# Altium integrated library ON Semi Transient Voltage Suppressors (TVS).IntLib: 730 symbols (part 6 of 17)
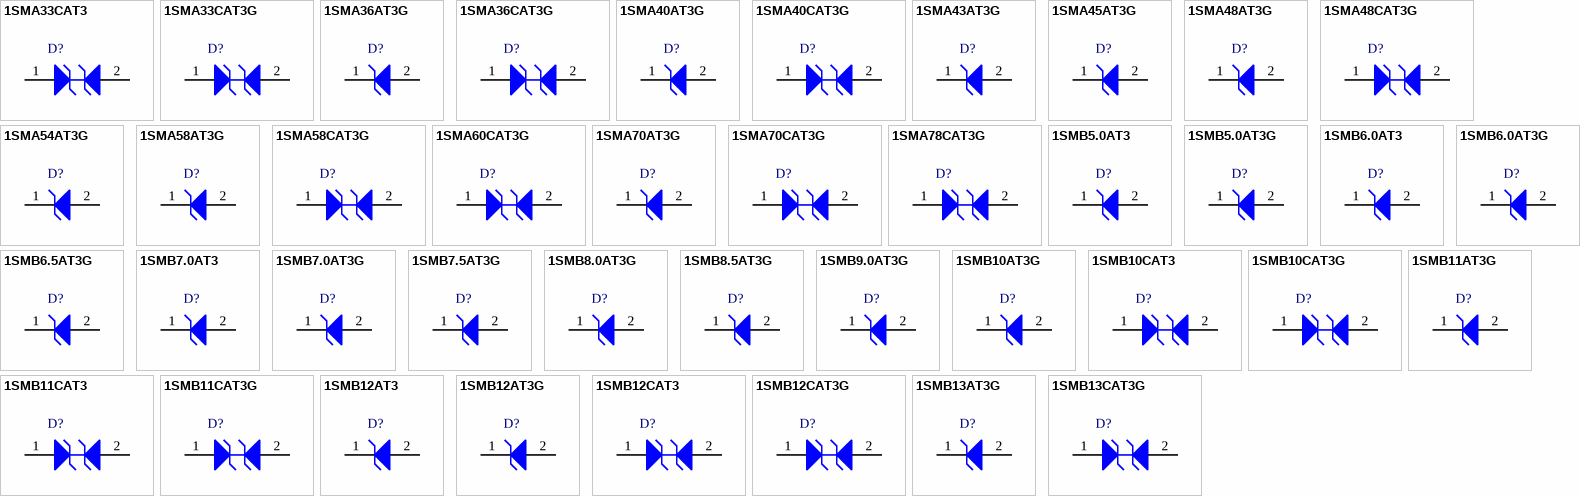
[diagram p23: symbols 1SMA33CAT3 to 1SMB13CAT3G]

## 1SMB10CAT3G
designator D?
600 W Peak Power Zener Transient Voltage Suppressor, Bidirectional, 2-Pin SMB, Pb-Free, Tape and Reel; Manufacturer: On Semiconductor; PartNumber: 1SMB10CAT3G; IR Max (uA): 5; PPK Max (W): 600; V(BR) Typ (V): 11.69; DatasheetVersion: Rev. A; PackageVersion: Rev. A, 01/2000; PackageReference: SMB-2-403C-01; PackageDescription: 2-Pin Small Molded Package, J-Bend Lead, Body 4.315 x 3.555 mm; Supplier 1: Digi-Key; Supplier Part Number 1: 1SMB10CAT3GOSTR-ND; Supplier 2: Digi-Key; Supplier Part Number 2: 1SMB10CAT3GOSCT-ND; Supplier 3: Digi-Key; Supplier Part Number 3: 1SMB10CAT3GOSDKR-ND; Supplier 4: Farnell; Supplier Part Number 4: 1703027; Supplier 5: Newark; Supplier Part Number 5: 45J2427; Supplier 6: Mouser; Supplier Part Number 6: 863-1SMB10CAT3G; Direction: Bidirectional; Packing: Tape and Reel; RoHS: Pb-Free; Mounting Technology: Surface Mount; ComponentLink1Description: Manufacturer URL; ComponentLink1URL: http://www.onsemi.com/; ComponentLink2Description: Datasheet; ComponentLink2URL: http://www.onsemi.com/pub_link/Collateral/1SMB10CAT3-D.PDF; ComponentLink3Description: Package Specification; ComponentLink3URL: http://www.onsemi.com/pub_link/Collateral/1SMB10CAT3-D.PDF
footprint ONSC-SMB-2-403C-01_V (SOJ, 2-Leads, Body 4.57x3.81mm)
pins: 1 A1, 2 A2

## 1SMB11AT3G
designator D?
600 W Peak Power Zener Transient Voltage Suppressor, Unidirectional, 2-Pin SMB, Pb-Free, Tape and Reel; Manufacturer: On Semiconductor; PartNumber: 1SMB11AT3G; IR Max (uA): 5; PPK Max (W): 600; V(BR) Typ (V): 12.85; DatasheetVersion: Rev. 13; PackageVersion: Rev. H, 05/2011; PackageReference: SMB-2-403A-03_H; PackageDescription: 2-Pin Small Molded Package, J-Bend Lead, Body 4.33 x 3.625 mm; Supplier 1: Digi-Key; Supplier Part Number 1: 1SMB11AT3G-ND; Supplier 2: Newark; Supplier Part Number 2: 42K3081; Supplier 3: Mouser; Supplier Part Number 3: 863-1SMB11AT3G; Direction: Unidirectional; Packing: Tape and Reel; RoHS: Pb-Free; Mounting Technology: Surface Mount; ComponentLink1Description: Manufacturer URL; ComponentLink1URL: http://www.onsemi.com/; ComponentLink2Description: Datasheet; ComponentLink2URL: http://www.onsemi.com/pub_link/Collateral/1SMB5.0AT3-D.PDF; ComponentLink3Description: Package Specification; ComponentLink3URL: http://www.onsemi.com/pub_link/Collateral/1SMB5913BT3-D.PDF
footprint ONSC-SMB-2-403A-03_H_V (Molded, 2-Leads, Body 4.6x3.95mm)
pins: 1 K, 2 A

## 1SMB11CAT3
designator D?
600 W Peak Power Zener Transient Voltage Suppressor, Bidirectional, 2-Pin SMB, Tape and Reel; Manufacturer: On Semiconductor; PartNumber: 1SMB11CAT3; IR Max (uA): 5; PPK Max (W): 600; V(BR) Typ (V): 12.84; DatasheetVersion: Rev. A; PackageVersion: Rev. A, 01/2000; PackageReference: SMB-2-403C-01; PackageDescription: 2-Pin Small Molded Package, J-Bend Lead, Body 4.315 x 3.555 mm; Supplier 1: Digi-Key; Supplier Part Number 1: 1SMB11CAT3-ND; Direction: Bidirectional; Packing: Tape and Reel; Mounting Technology: Surface Mount; ComponentLink1Description: Manufacturer URL; ComponentLink1URL: http://www.onsemi.com/; ComponentLink2Description: Datasheet; ComponentLink2URL: http://www.onsemi.com/pub_link/Collateral/1SMB10CAT3-D.PDF; ComponentLink3Description: Package Specification; ComponentLink3URL: http://www.onsemi.com/pub_link/Collateral/1SMB10CAT3-D.PDF
footprint ONSC-SMB-2-403C-01_V (SOJ, 2-Leads, Body 4.57x3.81mm)
pins: 1 A1, 2 A2

## 1SMB11CAT3G
designator D?
600 W Peak Power Zener Transient Voltage Suppressor, Bidirectional, 2-Pin SMB, Pb-Free, Tape and Reel; Manufacturer: On Semiconductor; PartNumber: 1SMB11CAT3G; IR Max (uA): 5; PPK Max (W): 600; V(BR) Typ (V): 12.84; DatasheetVersion: Rev. A; PackageVersion: Rev. A, 01/2000; PackageReference: SMB-2-403C-01; PackageDescription: 2-Pin Small Molded Package, J-Bend Lead, Body 4.315 x 3.555 mm; Supplier 1: Digi-Key; Supplier Part Number 1: 1SMB11CAT3GOSTR-ND; Supplier 2: Digi-Key; Supplier Part Number 2: 1SMB11CAT3GOSCT-ND; Supplier 3: Digi-Key; Supplier Part Number 3: 1SMB11CAT3GOSDKR-ND; Supplier 4: Newark; Supplier Part Number 4: 45J2428; Supplier 5: Mouser; Supplier Part Number 5: 863-1SMB11CAT3G; Direction: Bidirectional; Packing: Tape and Reel; RoHS: Pb-Free; Mounting Technology: Surface Mount; ComponentLink1Description: Manufacturer URL; ComponentLink1URL: http://www.onsemi.com/; ComponentLink2Description: Datasheet; ComponentLink2URL: http://www.onsemi.com/pub_link/Collateral/1SMB10CAT3-D.PDF; ComponentLink3Description: Package Specification; ComponentLink3URL: http://www.onsemi.com/pub_link/Collateral/1SMB10CAT3-D.PDF
footprint ONSC-SMB-2-403C-01_V (SOJ, 2-Leads, Body 4.57x3.81mm)
pins: 1 A1, 2 A2

## 1SMB12AT3
designator D?
600 W Peak Power Zener Transient Voltage Suppressor, Unidirectional, 2-Pin SMB, Tape and Reel; Manufacturer: On Semiconductor; PartNumber: 1SMB12AT3; IR Max (uA): 5; PPK Max (W): 600; V(BR) Typ (V): 14; DatasheetVersion: Rev. 13; PackageVersion: Rev. H, 05/2011; PackageReference: SMB-2-403A-03_H; PackageDescription: 2-Pin Small Molded Package, J-Bend Lead, Body 4.33 x 3.625 mm; Supplier 1: Digi-Key; Supplier Part Number 1: 1SMB12AT3OSCT-ND; Supplier 2: Digi-Key; Supplier Part Number 2: 1SMB12AT3OSDKR-ND; Direction: Unidirectional; Packing: Tape and Reel; Mounting Technology: Surface Mount; ComponentLink1Description: Manufacturer URL; ComponentLink1URL: http://www.onsemi.com/; ComponentLink2Description: Datasheet; ComponentLink2URL: http://www.onsemi.com/pub_link/Collateral/1SMB5.0AT3-D.PDF; ComponentLink3Description: Package Specification; ComponentLink3URL: http://www.onsemi.com/pub_link/Collateral/1SMB5913BT3-D.PDF
footprint ONSC-SMB-2-403A-03_H_V (Molded, 2-Leads, Body 4.6x3.95mm)
pins: 1 K, 2 A

## 1SMB12AT3G
designator D?
600 W Peak Power Zener Transient Voltage Suppressor, Unidirectional, 2-Pin SMB, Pb-Free, Tape and Reel; Manufacturer: On Semiconductor; PartNumber: 1SMB12AT3G; IR Max (uA): 5; PPK Max (W): 600; V(BR) Typ (V): 14; DatasheetVersion: Rev. 13; PackageVersion: Rev. H, 05/2011; PackageReference: SMB-2-403A-03_H; PackageDescription: 2-Pin Small Molded Package, J-Bend Lead, Body 4.33 x 3.625 mm; Supplier 1: Digi-Key; Supplier Part Number 1: 1SMB12AT3GOSTR-ND; Supplier 2: Digi-Key; Supplier Part Number 2: 1SMB12AT3GOSCT-ND; Supplier 3: Digi-Key; Supplier Part Number 3: 1SMB12AT3GOSDKR-ND; Supplier 4: Farnell; Supplier Part Number 4: 1459012RL; Supplier 5: Farnell; Supplier Part Number 5: 1459012; Supplier 6: Newark; Supplier Part Number 6: 45J2429; Supplier 7: Mouser; Supplier Part Number 7: 863-1SMB12AT3G; Direction: Unidirectional; Packing: Tape and Reel; RoHS: Pb-Free; Mounting Technology: Surface Mount; ComponentLink1Description: Manufacturer URL; ComponentLink1URL: http://www.onsemi.com/; ComponentLink2Description: Datasheet; ComponentLink2URL: http://www.onsemi.com/pub_link/Collateral/1SMB5.0AT3-D.PDF; ComponentLink3Description: Package Specification; ComponentLink3URL: http://www.onsemi.com/pub_link/Collateral/1SMB5913BT3-D.PDF
footprint ONSC-SMB-2-403A-03_H_V (Molded, 2-Leads, Body 4.6x3.95mm)
pins: 1 K, 2 A

## 1SMB12CAT3
designator D?
600 W Peak Power Zener Transient Voltage Suppressor, Bidirectional, 2-Pin SMB, Tape and Reel; Manufacturer: On Semiconductor; PartNumber: 1SMB12CAT3; IR Max (uA): 5; PPK Max (W): 600; V(BR) Typ (V): 14; DatasheetVersion: Rev. A; PackageVersion: Rev. A, 01/2000; PackageReference: SMB-2-403C-01; PackageDescription: 2-Pin Small Molded Package, J-Bend Lead, Body 4.315 x 3.555 mm; Supplier 1: Digi-Key; Supplier Part Number 1: 1SMB12CAT3OSTR-ND; Supplier 2: Digi-Key; Supplier Part Number 2: 1SMB12CAT3OSCT-ND; Supplier 3: Digi-Key; Supplier Part Number 3: 1SMB12CAT3OSDKR-ND; Direction: Bidirectional; Packing: Tape and Reel; Mounting Technology: Surface Mount; ComponentLink1Description: Manufacturer URL; ComponentLink1URL: http://www.onsemi.com/; ComponentLink2Description: Datasheet; ComponentLink2URL: http://www.onsemi.com/pub_link/Collateral/1SMB10CAT3-D.PDF; ComponentLink3Description: Package Specification; ComponentLink3URL: http://www.onsemi.com/pub_link/Collateral/1SMB10CAT3-D.PDF
footprint ONSC-SMB-2-403C-01_V (SOJ, 2-Leads, Body 4.57x3.81mm)
pins: 1 A1, 2 A2

## 1SMB12CAT3G
designator D?
600 W Peak Power Zener Transient Voltage Suppressor, Bidirectional, 2-Pin SMB, Pb-Free, Tape and Reel; Manufacturer: On Semiconductor; PartNumber: 1SMB12CAT3G; IR Max (uA): 5; PPK Max (W): 600; V(BR) Typ (V): 14; DatasheetVersion: Rev. A; PackageVersion: Rev. A, 01/2000; PackageReference: SMB-2-403C-01; PackageDescription: 2-Pin Small Molded Package, J-Bend Lead, Body 4.315 x 3.555 mm; Supplier 1: Digi-Key; Supplier Part Number 1: 1SMB12CAT3GOSTR-ND; Supplier 2: Digi-Key; Supplier Part Number 2: 1SMB12CAT3GOSCT-ND; Supplier 3: Digi-Key; Supplier Part Number 3: 1SMB12CAT3GOSDKR-ND; Supplier 4: Farnell; Supplier Part Number 4: 1150528; Supplier 5: Newark; Supplier Part Number 5: 45J2430; Supplier 6: Newark; Supplier Part Number 6: 77M8950; Supplier 7: Mouser; Supplier Part Number 7: 863-1SMB12CAT3G; Direction: Bidirectional; Packing: Tape and Reel; RoHS: Pb-Free; Mounting Technology: Surface Mount; ComponentLink1Description: Manufacturer URL; ComponentLink1URL: http://www.onsemi.com/; ComponentLink2Description: Datasheet; ComponentLink2URL: http://www.onsemi.com/pub_link/Collateral/1SMB10CAT3-D.PDF; ComponentLink3Description: Package Specification; ComponentLink3URL: http://www.onsemi.com/pub_link/Collateral/1SMB10CAT3-D.PDF
footprint ONSC-SMB-2-403C-01_V (SOJ, 2-Leads, Body 4.57x3.81mm)
pins: 1 A1, 2 A2

## 1SMB13AT3G
designator D?
600 W Peak Power Zener Transient Voltage Suppressor, Unidirectional, 2-Pin SMB, Pb-Free, Tape and Reel; Manufacturer: On Semiconductor; PartNumber: 1SMB13AT3G; IR Max (uA): 5; PPK Max (W): 600; V(BR) Typ (V): 15.15; DatasheetVersion: Rev. 13; PackageVersion: Rev. H, 05/2011; PackageReference: SMB-2-403A-03_H; PackageDescription: 2-Pin Small Molded Package, J-Bend Lead, Body 4.33 x 3.625 mm; Supplier 1: Digi-Key; Supplier Part Number 1: 1SMB13AT3GOSTR-ND; Supplier 2: Digi-Key; Supplier Part Number 2: 1SMB13AT3GOSCT-ND; Supplier 3: Digi-Key; Supplier Part Number 3: 1SMB13AT3GOSDKR-ND; Supplier 4: Newark; Supplier Part Number 4: 10N9656; Supplier 5: Mouser; Supplier Part Number 5: 863-1SMB13AT3G; Direction: Unidirectional; Packing: Tape and Reel; RoHS: Pb-Free; Mounting Technology: Surface Mount; ComponentLink1Description: Manufacturer URL; ComponentLink1URL: http://www.onsemi.com/; ComponentLink2Description: Datasheet; ComponentLink2URL: http://www.onsemi.com/pub_link/Collateral/1SMB5.0AT3-D.PDF; ComponentLink3Description: Package Specification; ComponentLink3URL: http://www.onsemi.com/pub_link/Collateral/1SMB5913BT3-D.PDF
footprint ONSC-SMB-2-403A-03_H_V (Molded, 2-Leads, Body 4.6x3.95mm)
pins: 1 K, 2 A

## 1SMB13CAT3G
designator D?
600 W Peak Power Zener Transient Voltage Suppressor, Bidirectional, 2-Pin SMB, Pb-Free, Tape and Reel; Manufacturer: On Semiconductor; PartNumber: 1SMB13CAT3G; IR Max (uA): 5; PPK Max (W): 600; V(BR) Typ (V): 15.16; DatasheetVersion: Rev. A; PackageVersion: Rev. A, 01/2000; PackageReference: SMB-2-403C-01; PackageDescription: 2-Pin Small Molded Package, J-Bend Lead, Body 4.315 x 3.555 mm; Supplier 1: Digi-Key; Supplier Part Number 1: 1SMB13CAT3GOSTR-ND; Supplier 2: Digi-Key; Supplier Part Number 2: 1SMB13CAT3GOSCT-ND; Supplier 3: Digi-Key; Supplier Part Number 3: 1SMB13CAT3GOSDKR-ND; Supplier 4: Newark; Supplier Part Number 4: 71J9204; Supplier 5: Mouser; Supplier Part Number 5: 863-1SMB13CAT3G; Direction: Bidirectional; Packing: Tape and Reel; RoHS: Pb-Free; Mounting Technology: Surface Mount; ComponentLink1Description: Manufacturer URL; ComponentLink1URL: http://www.onsemi.com/; ComponentLink2Description: Datasheet; ComponentLink2URL: http://www.onsemi.com/pub_link/Collateral/1SMB10CAT3-D.PDF; ComponentLink3Description: Package Specification; ComponentLink3URL: http://www.onsemi.com/pub_link/Collateral/1SMB10CAT3-D.PDF
footprint ONSC-SMB-2-403C-01_V (SOJ, 2-Leads, Body 4.57x3.81mm)
pins: 1 A1, 2 A2

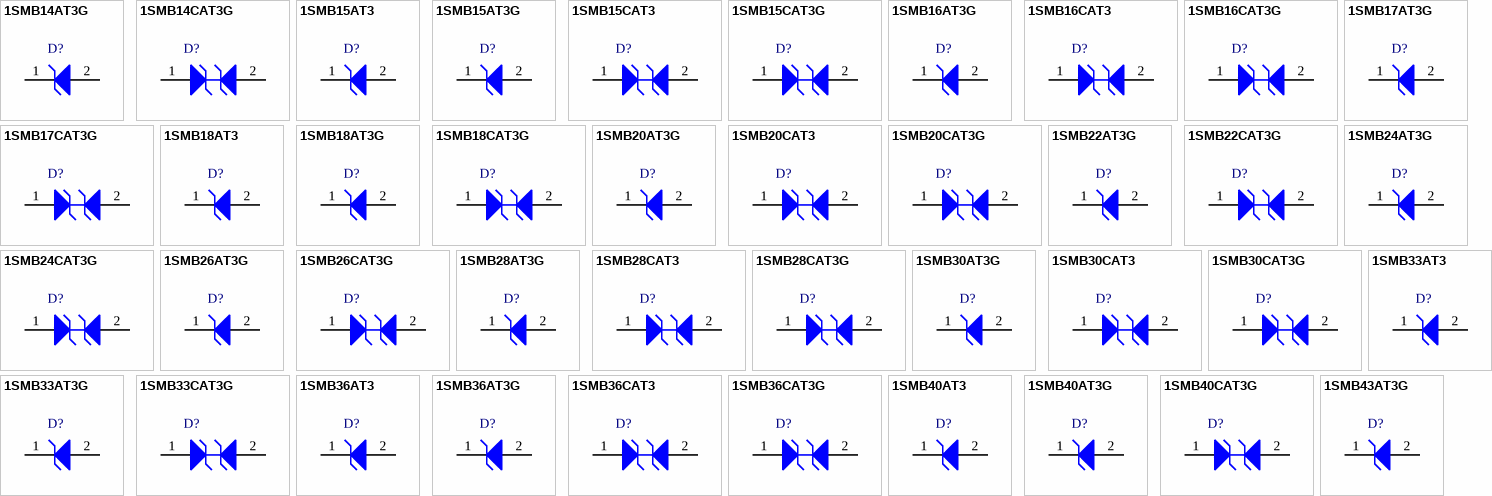
[diagram p6: symbols 1SMB14AT3G to 1SMB43AT3G]

## 1SMB14AT3G
designator D?
600 W Peak Power Zener Transient Voltage Suppressor, Unidirectional, 2-Pin SMB, Pb-Free, Tape and Reel; Manufacturer: On Semiconductor; PartNumber: 1SMB14AT3G; IR Max (uA): 5; PPK Max (W): 600; V(BR) Typ (V): 16.4; DatasheetVersion: Rev. 13; PackageVersion: Rev. H, 05/2011; PackageReference: SMB-2-403A-03_H; PackageDescription: 2-Pin Small Molded Package, J-Bend Lead, Body 4.33 x 3.625 mm; Supplier 1: Digi-Key; Supplier Part Number 1: 1SMB14AT3GOSTR-ND; Supplier 2: Digi-Key; Supplier Part Number 2: 1SMB14AT3GOSCT-ND; Supplier 3: Digi-Key; Supplier Part Number 3: 1SMB14AT3GOSDKR-ND; Supplier 4: Farnell; Supplier Part Number 4: 1890587; Supplier 5: Newark; Supplier Part Number 5: 09R9822; Supplier 6: Newark; Supplier Part Number 6: 88H5162; Supplier 7: Mouser; Supplier Part Number 7: 863-1SMB14AT3G; Direction: Unidirectional; Packing: Tape and Reel; RoHS: Pb-Free; Mounting Technology: Surface Mount; ComponentLink1Description: Manufacturer URL; ComponentLink1URL: http://www.onsemi.com/; ComponentLink2Description: Datasheet; ComponentLink2URL: http://www.onsemi.com/pub_link/Collateral/1SMB5.0AT3-D.PDF; ComponentLink3Description: Package Specification; ComponentLink3URL: http://www.onsemi.com/pub_link/Collateral/1SMB5913BT3-D.PDF
footprint ONSC-SMB-2-403A-03_H_V (Molded, 2-Leads, Body 4.6x3.95mm)
pins: 1 K, 2 A

## 1SMB14CAT3G
designator D?
600 W Peak Power Zener Transient Voltage Suppressor, Bidirectional, 2-Pin SMB, Pb-Free, Tape and Reel; Manufacturer: On Semiconductor; PartNumber: 1SMB14CAT3G; IR Max (uA): 5; PPK Max (W): 600; V(BR) Typ (V): 16.42; DatasheetVersion: Rev. A; PackageVersion: Rev. A, 01/2000; PackageReference: SMB-2-403C-01; PackageDescription: 2-Pin Small Molded Package, J-Bend Lead, Body 4.315 x 3.555 mm; Supplier 1: Digi-Key; Supplier Part Number 1: 1SMB14CAT3G-ND; Supplier 2: Newark; Supplier Part Number 2: 42K3083; Supplier 3: Mouser; Supplier Part Number 3: 863-1SMB14CAT3G; Direction: Bidirectional; Packing: Tape and Reel; RoHS: Pb-Free; Mounting Technology: Surface Mount; ComponentLink1Description: Manufacturer URL; ComponentLink1URL: http://www.onsemi.com/; ComponentLink2Description: Datasheet; ComponentLink2URL: http://www.onsemi.com/pub_link/Collateral/1SMB10CAT3-D.PDF; ComponentLink3Description: Package Specification; ComponentLink3URL: http://www.onsemi.com/pub_link/Collateral/1SMB10CAT3-D.PDF
footprint ONSC-SMB-2-403C-01_V (SOJ, 2-Leads, Body 4.57x3.81mm)
pins: 1 A1, 2 A2

## 1SMB15AT3
designator D?
600 W Peak Power Zener Transient Voltage Suppressor, Unidirectional, 2-Pin SMB, Tape and Reel; Manufacturer: On Semiconductor; PartNumber: 1SMB15AT3; IR Max (uA): 5; PPK Max (W): 600; V(BR) Typ (V): 17.6; DatasheetVersion: Rev. 13; PackageVersion: Rev. H, 05/2011; PackageReference: SMB-2-403A-03_H; PackageDescription: 2-Pin Small Molded Package, J-Bend Lead, Body 4.33 x 3.625 mm; Supplier 1: Digi-Key; Supplier Part Number 1: 1SMB15AT3OSCT-ND; Supplier 2: Digi-Key; Supplier Part Number 2: 1SMB15AT3OSDKR-ND; Direction: Unidirectional; Packing: Tape and Reel; Mounting Technology: Surface Mount; ComponentLink1Description: Manufacturer URL; ComponentLink1URL: http://www.onsemi.com/; ComponentLink2Description: Datasheet; ComponentLink2URL: http://www.onsemi.com/pub_link/Collateral/1SMB5.0AT3-D.PDF; ComponentLink3Description: Package Specification; ComponentLink3URL: http://www.onsemi.com/pub_link/Collateral/1SMB5913BT3-D.PDF
footprint ONSC-SMB-2-403A-03_H_V (Molded, 2-Leads, Body 4.6x3.95mm)
pins: 1 K, 2 A

## 1SMB15AT3G
designator D?
600 W Peak Power Zener Transient Voltage Suppressor, Unidirectional, 2-Pin SMB, Pb-Free, Tape and Reel; Manufacturer: On Semiconductor; PartNumber: 1SMB15AT3G; IR Max (uA): 5; PPK Max (W): 600; V(BR) Typ (V): 17.6; DatasheetVersion: Rev. 13; PackageVersion: Rev. H, 05/2011; PackageReference: SMB-2-403A-03_H; PackageDescription: 2-Pin Small Molded Package, J-Bend Lead, Body 4.33 x 3.625 mm; Supplier 1: Digi-Key; Supplier Part Number 1: 1SMB15AT3GOSTR-ND; Supplier 2: Digi-Key; Supplier Part Number 2: 1SMB15AT3GOSCT-ND; Supplier 3: Digi-Key; Supplier Part Number 3: 1SMB15AT3GOSDKR-ND; Supplier 4: Farnell; Supplier Part Number 4: 2317511; Supplier 5: Farnell; Supplier Part Number 5: 2370851; Supplier 6: Newark; Supplier Part Number 6: 45J2432; Supplier 7: Newark; Supplier Part Number 7: 67R1402; Supplier 8: Mouser; Supplier Part Number 8: 863-1SMB15AT3G; Direction: Unidirectional; Packing: Tape and Reel; RoHS: Pb-Free; Mounting Technology: Surface Mount; ComponentLink1Description: Manufacturer URL; ComponentLink1URL: http://www.onsemi.com/; ComponentLink2Description: Datasheet; ComponentLink2URL: http://www.onsemi.com/pub_link/Collateral/1SMB5.0AT3-D.PDF; ComponentLink3Description: Package Specification; ComponentLink3URL: http://www.onsemi.com/pub_link/Collateral/1SMB5913BT3-D.PDF
footprint ONSC-SMB-2-403A-03_H_V (Molded, 2-Leads, Body 4.6x3.95mm)
pins: 1 K, 2 A

## 1SMB15CAT3
designator D?
600 W Peak Power Zener Transient Voltage Suppressor, Bidirectional, 2-Pin SMB, Tape and Reel; Manufacturer: On Semiconductor; PartNumber: 1SMB15CAT3; IR Max (uA): 5; PPK Max (W): 600; V(BR) Typ (V): 17.58; DatasheetVersion: Rev. A; PackageVersion: Rev. A, 01/2000; PackageReference: SMB-2-403C-01; PackageDescription: 2-Pin Small Molded Package, J-Bend Lead, Body 4.315 x 3.555 mm; Supplier 1: Digi-Key; Supplier Part Number 1: 1SMB15CAT3OSTR-ND; Supplier 2: Digi-Key; Supplier Part Number 2: 1SMB15CAT3OSCT-ND; Supplier 3: Digi-Key; Supplier Part Number 3: 1SMB15CAT3OSDKR-ND; Direction: Bidirectional; Packing: Tape and Reel; Mounting Technology: Surface Mount; ComponentLink1Description: Manufacturer URL; ComponentLink1URL: http://www.onsemi.com/; ComponentLink2Description: Datasheet; ComponentLink2URL: http://www.onsemi.com/pub_link/Collateral/1SMB10CAT3-D.PDF; ComponentLink3Description: Package Specification; ComponentLink3URL: http://www.onsemi.com/pub_link/Collateral/1SMB10CAT3-D.PDF
footprint ONSC-SMB-2-403C-01_V (SOJ, 2-Leads, Body 4.57x3.81mm)
pins: 1 A1, 2 A2

## 1SMB15CAT3G
designator D?
600 W Peak Power Zener Transient Voltage Suppressor, Bidirectional, 2-Pin SMB, Pb-Free, Tape and Reel; Manufacturer: On Semiconductor; PartNumber: 1SMB15CAT3G; IR Max (uA): 5; PPK Max (W): 600; V(BR) Typ (V): 17.58; DatasheetVersion: Rev. A; PackageVersion: Rev. A, 01/2000; PackageReference: SMB-2-403C-01; PackageDescription: 2-Pin Small Molded Package, J-Bend Lead, Body 4.315 x 3.555 mm; Supplier 1: Digi-Key; Supplier Part Number 1: 1SMB15CAT3GOSTR-ND; Supplier 2: Digi-Key; Supplier Part Number 2: 1SMB15CAT3GOSCT-ND; Supplier 3: Digi-Key; Supplier Part Number 3: 1SMB15CAT3GOSDKR-ND; Supplier 4: Farnell; Supplier Part Number 4: 2317516; Supplier 5: Farnell; Supplier Part Number 5: 2370853; Supplier 6: Newark; Supplier Part Number 6: 67R1403; Supplier 7: Newark; Supplier Part Number 7: 45J2433; Supplier 8: Mouser; Supplier Part Number 8: 863-1SMB15CAT3G; Direction: Bidirectional; Packing: Tape and Reel; RoHS: Pb-Free; Mounting Technology: Surface Mount; ComponentLink1Description: Manufacturer URL; ComponentLink1URL: http://www.onsemi.com/; ComponentLink2Description: Datasheet; ComponentLink2URL: http://www.onsemi.com/pub_link/Collateral/1SMB10CAT3-D.PDF; ComponentLink3Description: Package Specification; ComponentLink3URL: http://www.onsemi.com/pub_link/Collateral/1SMB10CAT3-D.PDF
footprint ONSC-SMB-2-403C-01_V (SOJ, 2-Leads, Body 4.57x3.81mm)
pins: 1 A1, 2 A2

## 1SMB16AT3G
designator D?
600 W Peak Power Zener Transient Voltage Suppressor, Unidirectional, 2-Pin SMB, Pb-Free, Tape and Reel; Manufacturer: On Semiconductor; PartNumber: 1SMB16AT3G; IR Max (uA): 5; PPK Max (W): 600; V(BR) Typ (V): 18.75; DatasheetVersion: Rev. 13; PackageVersion: Rev. H, 05/2011; PackageReference: SMB-2-403A-03_H; PackageDescription: 2-Pin Small Molded Package, J-Bend Lead, Body 4.33 x 3.625 mm; Supplier 1: Digi-Key; Supplier Part Number 1: 1SMB16AT3GOSTR-ND; Supplier 2: Digi-Key; Supplier Part Number 2: 1SMB16AT3GOSCT-ND; Supplier 3: Digi-Key; Supplier Part Number 3: 1SMB16AT3GOSDKR-ND; Supplier 4: Farnell; Supplier Part Number 4: 1155742; Supplier 5: Newark; Supplier Part Number 5: 88H5163; Supplier 6: Mouser; Supplier Part Number 6: 863-1SMB16AT3G; Direction: Unidirectional; Packing: Tape and Reel; RoHS: Pb-Free; Mounting Technology: Surface Mount; ComponentLink1Description: Manufacturer URL; ComponentLink1URL: http://www.onsemi.com/; ComponentLink2Description: Datasheet; ComponentLink2URL: http://www.onsemi.com/pub_link/Collateral/1SMB5.0AT3-D.PDF; ComponentLink3Description: Package Specification; ComponentLink3URL: http://www.onsemi.com/pub_link/Collateral/1SMB5913BT3-D.PDF
footprint ONSC-SMB-2-403A-03_H_V (Molded, 2-Leads, Body 4.6x3.95mm)
pins: 1 K, 2 A

## 1SMB16CAT3
designator D?
600 W Peak Power Zener Transient Voltage Suppressor, Bidirectional, 2-Pin SMB, Tape and Reel; Manufacturer: On Semiconductor; PartNumber: 1SMB16CAT3; IR Max (uA): 5; PPK Max (W): 600; V(BR) Typ (V): 18.74; DatasheetVersion: Rev. A; PackageVersion: Rev. A, 01/2000; PackageReference: SMB-2-403C-01; PackageDescription: 2-Pin Small Molded Package, J-Bend Lead, Body 4.315 x 3.555 mm; Supplier 1: Digi-Key; Supplier Part Number 1: 1SMB16CAT3OSTR-ND; Supplier 2: Digi-Key; Supplier Part Number 2: 1SMB16CAT3OSCT-ND; Supplier 3: Digi-Key; Supplier Part Number 3: 1SMB16CAT3OSDKR-ND; Direction: Bidirectional; Packing: Tape and Reel; Mounting Technology: Surface Mount; ComponentLink1Description: Manufacturer URL; ComponentLink1URL: http://www.onsemi.com/; ComponentLink2Description: Datasheet; ComponentLink2URL: http://www.onsemi.com/pub_link/Collateral/1SMB10CAT3-D.PDF; ComponentLink3Description: Package Specification; ComponentLink3URL: http://www.onsemi.com/pub_link/Collateral/1SMB10CAT3-D.PDF
footprint ONSC-SMB-2-403C-01_V (SOJ, 2-Leads, Body 4.57x3.81mm)
pins: 1 A1, 2 A2

## 1SMB16CAT3G
designator D?
600 W Peak Power Zener Transient Voltage Suppressor, Bidirectional, 2-Pin SMB, Pb-Free, Tape and Reel; Manufacturer: On Semiconductor; PartNumber: 1SMB16CAT3G; IR Max (uA): 5; PPK Max (W): 600; V(BR) Typ (V): 18.74; DatasheetVersion: Rev. A; PackageVersion: Rev. A, 01/2000; PackageReference: SMB-2-403C-01; PackageDescription: 2-Pin Small Molded Package, J-Bend Lead, Body 4.315 x 3.555 mm; Supplier 1: Digi-Key; Supplier Part Number 1: 1SMB16CAT3GOSTR-ND; Supplier 2: Digi-Key; Supplier Part Number 2: 1SMB16CAT3GOSCT-ND; Supplier 3: Digi-Key; Supplier Part Number 3: 1SMB16CAT3GOSDKR-ND; Supplier 4: Newark; Supplier Part Number 4: 42K3085; Supplier 5: Mouser; Supplier Part Number 5: 863-1SMB16CAT3G; Direction: Bidirectional; Packing: Tape and Reel; RoHS: Pb-Free; Mounting Technology: Surface Mount; ComponentLink1Description: Manufacturer URL; ComponentLink1URL: http://www.onsemi.com/; ComponentLink2Description: Datasheet; ComponentLink2URL: http://www.onsemi.com/pub_link/Collateral/1SMB10CAT3-D.PDF; ComponentLink3Description: Package Specification; ComponentLink3URL: http://www.onsemi.com/pub_link/Collateral/1SMB10CAT3-D.PDF
footprint ONSC-SMB-2-403C-01_V (SOJ, 2-Leads, Body 4.57x3.81mm)
pins: 1 A1, 2 A2

## 1SMB17AT3G
designator D?
600 W Peak Power Zener Transient Voltage Suppressor, Unidirectional, 2-Pin SMB, Pb-Free, Tape and Reel; Manufacturer: On Semiconductor; PartNumber: 1SMB17AT3G; IR Max (uA): 5; PPK Max (W): 600; V(BR) Typ (V): 19.9; DatasheetVersion: Rev. 13; PackageVersion: Rev. H, 05/2011; PackageReference: SMB-2-403A-03_H; PackageDescription: 2-Pin Small Molded Package, J-Bend Lead, Body 4.33 x 3.625 mm; Supplier 1: Digi-Key; Supplier Part Number 1: 1SMB17AT3GOSTR-ND; Supplier 2: Digi-Key; Supplier Part Number 2: 1SMB17AT3GOSCT-ND; Supplier 3: Digi-Key; Supplier Part Number 3: 1SMB17AT3GOSDKR-ND; Supplier 4: Farnell; Supplier Part Number 4: 1889946; Supplier 5: Newark; Supplier Part Number 5: 71J9206; Supplier 6: Newark; Supplier Part Number 6: 09R9825; Supplier 7: Mouser; Supplier Part Number 7: 863-1SMB17AT3G; Direction: Unidirectional; Packing: Tape and Reel; RoHS: Pb-Free; Mounting Technology: Surface Mount; ComponentLink1Description: Manufacturer URL; ComponentLink1URL: http://www.onsemi.com/; ComponentLink2Description: Datasheet; ComponentLink2URL: http://www.onsemi.com/pub_link/Collateral/1SMB5.0AT3-D.PDF; ComponentLink3Description: Package Specification; ComponentLink3URL: http://www.onsemi.com/pub_link/Collateral/1SMB5913BT3-D.PDF
footprint ONSC-SMB-2-403A-03_H_V (Molded, 2-Leads, Body 4.6x3.95mm)
pins: 1 K, 2 A

## 1SMB17CAT3G
designator D?
600 W Peak Power Zener Transient Voltage Suppressor, Bidirectional, 2-Pin SMB, Pb-Free, Tape and Reel; Manufacturer: On Semiconductor; PartNumber: 1SMB17CAT3G; IR Max (uA): 5; PPK Max (W): 600; V(BR) Typ (V): 19.9; DatasheetVersion: Rev. A; PackageVersion: Rev. A, 01/2000; PackageReference: SMB-2-403C-01; PackageDescription: 2-Pin Small Molded Package, J-Bend Lead, Body 4.315 x 3.555 mm; Supplier 1: Digi-Key; Supplier Part Number 1: 1SMB17CAT3G-ND; Supplier 2: Mouser; Supplier Part Number 2: 863-1SMB17CAT3G; Direction: Bidirectional; Packing: Tape and Reel; RoHS: Pb-Free; Mounting Technology: Surface Mount; ComponentLink1Description: Manufacturer URL; ComponentLink1URL: http://www.onsemi.com/; ComponentLink2Description: Datasheet; ComponentLink2URL: http://www.onsemi.com/pub_link/Collateral/1SMB10CAT3-D.PDF; ComponentLink3Description: Package Specification; ComponentLink3URL: http://www.onsemi.com/pub_link/Collateral/1SMB10CAT3-D.PDF
footprint ONSC-SMB-2-403C-01_V (SOJ, 2-Leads, Body 4.57x3.81mm)
pins: 1 A1, 2 A2

## 1SMB18AT3
designator D?
600 W Peak Power Zener Transient Voltage Suppressor, Unidirectional, 2-Pin SMB, Tape and Reel; Manufacturer: On Semiconductor; PartNumber: 1SMB18AT3; IR Max (uA): 5; PPK Max (W): 600; V(BR) Typ (V): 21.05; DatasheetVersion: Rev. 13; PackageVersion: Rev. H, 05/2011; PackageReference: SMB-2-403A-03_H; PackageDescription: 2-Pin Small Molded Package, J-Bend Lead, Body 4.33 x 3.625 mm; Supplier 1: Digi-Key; Supplier Part Number 1: 1SMB18AT3OSCT-ND; Supplier 2: Digi-Key; Supplier Part Number 2: 1SMB18AT3OSDKR-ND; Direction: Unidirectional; Packing: Tape and Reel; Mounting Technology: Surface Mount; ComponentLink1Description: Manufacturer URL; ComponentLink1URL: http://www.onsemi.com/; ComponentLink2Description: Datasheet; ComponentLink2URL: http://www.onsemi.com/pub_link/Collateral/1SMB5.0AT3-D.PDF; ComponentLink3Description: Package Specification; ComponentLink3URL: http://www.onsemi.com/pub_link/Collateral/1SMB5913BT3-D.PDF
footprint ONSC-SMB-2-403A-03_H_V (Molded, 2-Leads, Body 4.6x3.95mm)
pins: 1 K, 2 A

## 1SMB18AT3G
designator D?
600 W Peak Power Zener Transient Voltage Suppressor, Unidirectional, 2-Pin SMB, Pb-Free, Tape and Reel; Manufacturer: On Semiconductor; PartNumber: 1SMB18AT3G; IR Max (uA): 5; PPK Max (W): 600; V(BR) Typ (V): 21.05; DatasheetVersion: Rev. 13; PackageVersion: Rev. H, 05/2011; PackageReference: SMB-2-403A-03_H; PackageDescription: 2-Pin Small Molded Package, J-Bend Lead, Body 4.33 x 3.625 mm; Supplier 1: Digi-Key; Supplier Part Number 1: 1SMB18AT3GOSTR-ND; Supplier 2: Digi-Key; Supplier Part Number 2: 1SMB18AT3GOSCT-ND; Supplier 3: Digi-Key; Supplier Part Number 3: 1SMB18AT3GOSDKR-ND; Supplier 4: Farnell; Supplier Part Number 4: 1364653; Supplier 5: Newark; Supplier Part Number 5: 45J2434; Supplier 6: Mouser; Supplier Part Number 6: 863-1SMB18AT3G; Direction: Unidirectional; Packing: Tape and Reel; RoHS: Pb-Free; Mounting Technology: Surface Mount; ComponentLink1Description: Manufacturer URL; ComponentLink1URL: http://www.onsemi.com/; ComponentLink2Description: Datasheet; ComponentLink2URL: http://www.onsemi.com/pub_link/Collateral/1SMB5.0AT3-D.PDF; ComponentLink3Description: Package Specification; ComponentLink3URL: http://www.onsemi.com/pub_link/Collateral/1SMB5913BT3-D.PDF
footprint ONSC-SMB-2-403A-03_H_V (Molded, 2-Leads, Body 4.6x3.95mm)
pins: 1 K, 2 A

## 1SMB18CAT3G
designator D?
600 W Peak Power Zener Transient Voltage Suppressor, Bidirectional, 2-Pin SMB, Pb-Free, Tape and Reel; Manufacturer: On Semiconductor; PartNumber: 1SMB18CAT3G; IR Max (uA): 5; PPK Max (W): 600; V(BR) Typ (V): 21.06; DatasheetVersion: Rev. A; PackageVersion: Rev. A, 01/2000; PackageReference: SMB-2-403C-01; PackageDescription: 2-Pin Small Molded Package, J-Bend Lead, Body 4.315 x 3.555 mm; Supplier 1: Digi-Key; Supplier Part Number 1: 1SMB18CAT3GOSTR-ND; Supplier 2: Digi-Key; Supplier Part Number 2: 1SMB18CAT3GOSCT-ND; Supplier 3: Digi-Key; Supplier Part Number 3: 1SMB18CAT3GOSDKR-ND; Supplier 4: Newark; Supplier Part Number 4: 42K3086; Supplier 5: Mouser; Supplier Part Number 5: 863-1SMB18CAT3G; Direction: Bidirectional; Packing: Tape and Reel; RoHS: Pb-Free; Mounting Technology: Surface Mount; ComponentLink1Description: Manufacturer URL; ComponentLink1URL: http://www.onsemi.com/; ComponentLink2Description: Datasheet; ComponentLink2URL: http://www.onsemi.com/pub_link/Collateral/1SMB10CAT3-D.PDF; ComponentLink3Description: Package Specification; ComponentLink3URL: http://www.onsemi.com/pub_link/Collateral/1SMB10CAT3-D.PDF
footprint ONSC-SMB-2-403C-01_V (SOJ, 2-Leads, Body 4.57x3.81mm)
pins: 1 A1, 2 A2

## 1SMB20AT3G
designator D?
600 W Peak Power Zener Transient Voltage Suppressor, Unidirectional, 2-Pin SMB, Pb-Free, Tape and Reel; Manufacturer: On Semiconductor; PartNumber: 1SMB20AT3G; IR Max (uA): 5; PPK Max (W): 600; V(BR) Typ (V): 23.35; DatasheetVersion: Rev. 13; PackageVersion: Rev. H, 05/2011; PackageReference: SMB-2-403A-03_H; PackageDescription: 2-Pin Small Molded Package, J-Bend Lead, Body 4.33 x 3.625 mm; Supplier 1: Digi-Key; Supplier Part Number 1: 1SMB20AT3GOSTR-ND; Supplier 2: Digi-Key; Supplier Part Number 2: 1SMB20AT3GOSCT-ND; Supplier 3: Digi-Key; Supplier Part Number 3: 1SMB20AT3GOSDKR-ND; Supplier 4: Newark; Supplier Part Number 4: 10N9657; Supplier 5: Newark; Supplier Part Number 5: 88H5164; Supplier 6: Mouser; Supplier Part Number 6: 863-1SMB20AT3G; Direction: Unidirectional; Packing: Tape and Reel; RoHS: Pb-Free; Mounting Technology: Surface Mount; ComponentLink1Description: Manufacturer URL; ComponentLink1URL: http://www.onsemi.com/; ComponentLink2Description: Datasheet; ComponentLink2URL: http://www.onsemi.com/pub_link/Collateral/1SMB5.0AT3-D.PDF; ComponentLink3Description: Package Specification; ComponentLink3URL: http://www.onsemi.com/pub_link/Collateral/1SMB5913BT3-D.PDF
footprint ONSC-SMB-2-403A-03_H_V (Molded, 2-Leads, Body 4.6x3.95mm)
pins: 1 K, 2 A

## 1SMB20CAT3
designator D?
600 W Peak Power Zener Transient Voltage Suppressor, Bidirectional, 2-Pin SMB, Tape and Reel; Manufacturer: On Semiconductor; PartNumber: 1SMB20CAT3; IR Max (uA): 5; PPK Max (W): 600; V(BR) Typ (V): 23.37; DatasheetVersion: Rev. A; PackageVersion: Rev. A, 01/2000; PackageReference: SMB-2-403C-01; PackageDescription: 2-Pin Small Molded Package, J-Bend Lead, Body 4.315 x 3.555 mm; Supplier 1: Digi-Key; Supplier Part Number 1: 1SMB20CAT3OSTR-ND; Supplier 2: Digi-Key; Supplier Part Number 2: 1SMB20CAT3OSCT-ND; Supplier 3: Digi-Key; Supplier Part Number 3: 1SMB20CAT3OSDKR-ND; Direction: Bidirectional; Packing: Tape and Reel; Mounting Technology: Surface Mount; ComponentLink1Description: Manufacturer URL; ComponentLink1URL: http://www.onsemi.com/; ComponentLink2Description: Datasheet; ComponentLink2URL: http://www.onsemi.com/pub_link/Collateral/1SMB10CAT3-D.PDF; ComponentLink3Description: Package Specification; ComponentLink3URL: http://www.onsemi.com/pub_link/Collateral/1SMB10CAT3-D.PDF
footprint ONSC-SMB-2-403C-01_V (SOJ, 2-Leads, Body 4.57x3.81mm)
pins: 1 A1, 2 A2

## 1SMB20CAT3G
designator D?
600 W Peak Power Zener Transient Voltage Suppressor, Bidirectional, 2-Pin SMB, Pb-Free, Tape and Reel; Manufacturer: On Semiconductor; PartNumber: 1SMB20CAT3G; IR Max (uA): 5; PPK Max (W): 600; V(BR) Typ (V): 23.37; DatasheetVersion: Rev. A; PackageVersion: Rev. A, 01/2000; PackageReference: SMB-2-403C-01; PackageDescription: 2-Pin Small Molded Package, J-Bend Lead, Body 4.315 x 3.555 mm; Supplier 1: Digi-Key; Supplier Part Number 1: 1SMB20CAT3GOSTR-ND; Supplier 2: Digi-Key; Supplier Part Number 2: 1SMB20CAT3GOSCT-ND; Supplier 3: Digi-Key; Supplier Part Number 3: 1SMB20CAT3GOSDKR-ND; Supplier 4: Newark; Supplier Part Number 4: 10N9658; Supplier 5: Mouser; Supplier Part Number 5: 863-1SMB20CAT3G; Direction: Bidirectional; Packing: Tape and Reel; RoHS: Pb-Free; Mounting Technology: Surface Mount; ComponentLink1Description: Manufacturer URL; ComponentLink1URL: http://www.onsemi.com/; ComponentLink2Description: Datasheet; ComponentLink2URL: http://www.onsemi.com/pub_link/Collateral/1SMB10CAT3-D.PDF; ComponentLink3Description: Package Specification; ComponentLink3URL: http://www.onsemi.com/pub_link/Collateral/1SMB10CAT3-D.PDF
footprint ONSC-SMB-2-403C-01_V (SOJ, 2-Leads, Body 4.57x3.81mm)
pins: 1 A1, 2 A2

## 1SMB22AT3G
designator D?
600 W Peak Power Zener Transient Voltage Suppressor, Unidirectional, 2-Pin SMB, Pb-Free, Tape and Reel; Manufacturer: On Semiconductor; PartNumber: 1SMB22AT3G; IR Max (uA): 5; PPK Max (W): 600; V(BR) Typ (V): 25.65; DatasheetVersion: Rev. 13; PackageVersion: Rev. H, 05/2011; PackageReference: SMB-2-403A-03_H; PackageDescription: 2-Pin Small Molded Package, J-Bend Lead, Body 4.33 x 3.625 mm; Supplier 1: Digi-Key; Supplier Part Number 1: 1SMB22AT3GOSTR-ND; Supplier 2: Digi-Key; Supplier Part Number 2: 1SMB22AT3GOSCT-ND; Supplier 3: Digi-Key; Supplier Part Number 3: 1SMB22AT3GOSDKR-ND; Supplier 4: Newark; Supplier Part Number 4: 42K3087; Supplier 5: Mouser; Supplier Part Number 5: 863-1SMB22AT3G; Direction: Unidirectional; Packing: Tape and Reel; RoHS: Pb-Free; Mounting Technology: Surface Mount; ComponentLink1Description: Manufacturer URL; ComponentLink1URL: http://www.onsemi.com/; ComponentLink2Description: Datasheet; ComponentLink2URL: http://www.onsemi.com/pub_link/Collateral/1SMB5.0AT3-D.PDF; ComponentLink3Description: Package Specification; ComponentLink3URL: http://www.onsemi.com/pub_link/Collateral/1SMB5913BT3-D.PDF
footprint ONSC-SMB-2-403A-03_H_V (Molded, 2-Leads, Body 4.6x3.95mm)
pins: 1 K, 2 A

## 1SMB22CAT3G
designator D?
600 W Peak Power Zener Transient Voltage Suppressor, Bidirectional, 2-Pin SMB, Pb-Free, Tape and Reel; Manufacturer: On Semiconductor; PartNumber: 1SMB22CAT3G; IR Max (uA): 5; PPK Max (W): 600; V(BR) Typ (V): 25.69; DatasheetVersion: Rev. A; PackageVersion: Rev. A, 01/2000; PackageReference: SMB-2-403C-01; PackageDescription: 2-Pin Small Molded Package, J-Bend Lead, Body 4.315 x 3.555 mm; Supplier 1: Digi-Key; Supplier Part Number 1: 1SMB22CAT3GOSTR-ND; Supplier 2: Digi-Key; Supplier Part Number 2: 1SMB22CAT3GOSCT-ND; Supplier 3: Digi-Key; Supplier Part Number 3: 1SMB22CAT3GOSDKR-ND; Supplier 4: Newark; Supplier Part Number 4: 71J9208; Supplier 5: Mouser; Supplier Part Number 5: 863-1SMB22CAT3G; Direction: Bidirectional; Packing: Tape and Reel; RoHS: Pb-Free; Mounting Technology: Surface Mount; ComponentLink1Description: Manufacturer URL; ComponentLink1URL: http://www.onsemi.com/; ComponentLink2Description: Datasheet; ComponentLink2URL: http://www.onsemi.com/pub_link/Collateral/1SMB10CAT3-D.PDF; ComponentLink3Description: Package Specification; ComponentLink3URL: http://www.onsemi.com/pub_link/Collateral/1SMB10CAT3-D.PDF
footprint ONSC-SMB-2-403C-01_V (SOJ, 2-Leads, Body 4.57x3.81mm)
pins: 1 A1, 2 A2

## 1SMB24AT3G
designator D?
600 W Peak Power Zener Transient Voltage Suppressor, Unidirectional, 2-Pin SMB, Pb-Free, Tape and Reel; Manufacturer: On Semiconductor; PartNumber: 1SMB24AT3G; IR Max (uA): 5; PPK Max (W): 600; V(BR) Typ (V): 28.1; DatasheetVersion: Rev. 13; PackageVersion: Rev. H, 05/2011; PackageReference: SMB-2-403A-03_H; PackageDescription: 2-Pin Small Molded Package, J-Bend Lead, Body 4.33 x 3.625 mm; Supplier 1: Digi-Key; Supplier Part Number 1: 1SMB24AT3GOSTR-ND; Supplier 2: Digi-Key; Supplier Part Number 2: 1SMB24AT3GOSCT-ND; Supplier 3: Digi-Key; Supplier Part Number 3: 1SMB24AT3GOSDKR-ND; Supplier 4: Farnell; Supplier Part Number 4: 1651636RL; Supplier 5: Farnell; Supplier Part Number 5: 1651636; Supplier 6: Newark; Supplier Part Number 6: 45J2436; Supplier 7: Mouser; Supplier Part Number 7: 863-1SMB24AT3G; Direction: Unidirectional; Packing: Tape and Reel; RoHS: Pb-Free; Mounting Technology: Surface Mount; ComponentLink1Description: Manufacturer URL; ComponentLink1URL: http://www.onsemi.com/; ComponentLink2Description: Datasheet; ComponentLink2URL: http://www.onsemi.com/pub_link/Collateral/1SMB5.0AT3-D.PDF; ComponentLink3Description: Package Specification; ComponentLink3URL: http://www.onsemi.com/pub_link/Collateral/1SMB5913BT3-D.PDF
footprint ONSC-SMB-2-403A-03_H_V (Molded, 2-Leads, Body 4.6x3.95mm)
pins: 1 K, 2 A

## 1SMB24CAT3G
designator D?
600 W Peak Power Zener Transient Voltage Suppressor, Bidirectional, 2-Pin SMB, Pb-Free, Tape and Reel; Manufacturer: On Semiconductor; PartNumber: 1SMB24CAT3G; IR Max (uA): 5; PPK Max (W): 600; V(BR) Typ (V): 28.11; DatasheetVersion: Rev. A; PackageVersion: Rev. A, 01/2000; PackageReference: SMB-2-403C-01; PackageDescription: 2-Pin Small Molded Package, J-Bend Lead, Body 4.315 x 3.555 mm; Supplier 1: Digi-Key; Supplier Part Number 1: 1SMB24CAT3GOSTR-ND; Supplier 2: Digi-Key; Supplier Part Number 2: 1SMB24CAT3GOSCT-ND; Supplier 3: Digi-Key; Supplier Part Number 3: 1SMB24CAT3GOSDKR-ND; Supplier 4: Farnell; Supplier Part Number 4: 1705768; Supplier 5: Newark; Supplier Part Number 5: 10N9737; Supplier 6: Mouser; Supplier Part Number 6: 863-1SMB24CAT3G; Direction: Bidirectional; Packing: Tape and Reel; RoHS: Pb-Free; Mounting Technology: Surface Mount; ComponentLink1Description: Manufacturer URL; ComponentLink1URL: http://www.onsemi.com/; ComponentLink2Description: Datasheet; ComponentLink2URL: http://www.onsemi.com/pub_link/Collateral/1SMB10CAT3-D.PDF; ComponentLink3Description: Package Specification; ComponentLink3URL: http://www.onsemi.com/pub_link/Collateral/1SMB10CAT3-D.PDF
footprint ONSC-SMB-2-403C-01_V (SOJ, 2-Leads, Body 4.57x3.81mm)
pins: 1 A1, 2 A2

## 1SMB26AT3G
designator D?
600 W Peak Power Zener Transient Voltage Suppressor, Unidirectional, 2-Pin SMB, Pb-Free, Tape and Reel; Manufacturer: On Semiconductor; PartNumber: 1SMB26AT3G; IR Max (uA): 5; PPK Max (W): 600; V(BR) Typ (V): 30.4; DatasheetVersion: Rev. 13; PackageVersion: Rev. H, 05/2011; PackageReference: SMB-2-403A-03_H; PackageDescription: 2-Pin Small Molded Package, J-Bend Lead, Body 4.33 x 3.625 mm; Supplier 1: Digi-Key; Supplier Part Number 1: 1SMB26AT3GOSTR-ND; Supplier 2: Digi-Key; Supplier Part Number 2: 1SMB26AT3GOSCT-ND; Supplier 3: Digi-Key; Supplier Part Number 3: 1SMB26AT3GOSDKR-ND; Supplier 4: Newark; Supplier Part Number 4: 26K5264; Supplier 5: Mouser; Supplier Part Number 5: 863-1SMB26AT3G; Direction: Unidirectional; Packing: Tape and Reel; RoHS: Pb-Free; Mounting Technology: Surface Mount; ComponentLink1Description: Manufacturer URL; ComponentLink1URL: http://www.onsemi.com/; ComponentLink2Description: Datasheet; ComponentLink2URL: http://www.onsemi.com/pub_link/Collateral/1SMB5.0AT3-D.PDF; ComponentLink3Description: Package Specification; ComponentLink3URL: http://www.onsemi.com/pub_link/Collateral/1SMB5913BT3-D.PDF
footprint ONSC-SMB-2-403A-03_H_V (Molded, 2-Leads, Body 4.6x3.95mm)
pins: 1 K, 2 A

## 1SMB26CAT3G
designator D?
600 W Peak Power Zener Transient Voltage Suppressor, Bidirectional, 2-Pin SMB, Pb-Free, Tape and Reel; Manufacturer: On Semiconductor; PartNumber: 1SMB26CAT3G; IR Max (uA): 5; PPK Max (W): 600; V(BR) Typ (V): 30.42; DatasheetVersion: Rev. A; PackageVersion: Rev. A, 01/2000; PackageReference: SMB-2-403C-01; PackageDescription: 2-Pin Small Molded Package, J-Bend Lead, Body 4.315 x 3.555 mm; Supplier 1: Digi-Key; Supplier Part Number 1: 1SMB26CAT3GOSTR-ND; Supplier 2: Digi-Key; Supplier Part Number 2: 1SMB26CAT3GOSCT-ND; Supplier 3: Digi-Key; Supplier Part Number 3: 1SMB26CAT3GOSDKR-ND; Supplier 4: Newark; Supplier Part Number 4: 26K5265; Supplier 5: Mouser; Supplier Part Number 5: 863-1SMB26CAT3G; Direction: Bidirectional; Packing: Tape and Reel; RoHS: Pb-Free; Mounting Technology: Surface Mount; ComponentLink1Description: Manufacturer URL; ComponentLink1URL: http://www.onsemi.com/; ComponentLink2Description: Datasheet; ComponentLink2URL: http://www.onsemi.com/pub_link/Collateral/1SMB10CAT3-D.PDF; ComponentLink3Description: Package Specification; ComponentLink3URL: http://www.onsemi.com/pub_link/Collateral/1SMB10CAT3-D.PDF
footprint ONSC-SMB-2-403C-01_V (SOJ, 2-Leads, Body 4.57x3.81mm)
pins: 1 A1, 2 A2

## 1SMB28AT3G
designator D?
600 W Peak Power Zener Transient Voltage Suppressor, Unidirectional, 2-Pin SMB, Pb-Free, Tape and Reel; Manufacturer: On Semiconductor; PartNumber: 1SMB28AT3G; IR Max (uA): 5; PPK Max (W): 600; V(BR) Typ (V): 32.75; DatasheetVersion: Rev. 13; PackageVersion: Rev. H, 05/2011; PackageReference: SMB-2-403A-03_H; PackageDescription: 2-Pin Small Molded Package, J-Bend Lead, Body 4.33 x 3.625 mm; Supplier 1: Digi-Key; Supplier Part Number 1: 1SMB28AT3GOSTR-ND; Supplier 2: Digi-Key; Supplier Part Number 2: 1SMB28AT3GOSCT-ND; Supplier 3: Digi-Key; Supplier Part Number 3: 1SMB28AT3GOSDKR-ND; Supplier 4: Farnell; Supplier Part Number 4: 1651576; Supplier 5: Farnell; Supplier Part Number 5: 1651576RL; Supplier 6: Newark; Supplier Part Number 6: 45J2437; Supplier 7: Mouser; Supplier Part Number 7: 863-1SMB28AT3G; Direction: Unidirectional; Packing: Tape and Reel; RoHS: Pb-Free; Mounting Technology: Surface Mount; ComponentLink1Description: Manufacturer URL; ComponentLink1URL: http://www.onsemi.com/; ComponentLink2Description: Datasheet; ComponentLink2URL: http://www.onsemi.com/pub_link/Collateral/1SMB5.0AT3-D.PDF; ComponentLink3Description: Package Specification; ComponentLink3URL: http://www.onsemi.com/pub_link/Collateral/1SMB5913BT3-D.PDF
footprint ONSC-SMB-2-403A-03_H_V (Molded, 2-Leads, Body 4.6x3.95mm)
pins: 1 K, 2 A

## 1SMB28CAT3
designator D?
600 W Peak Power Zener Transient Voltage Suppressor, Bidirectional, 2-Pin SMB, Tape and Reel; Manufacturer: On Semiconductor; PartNumber: 1SMB28CAT3; IR Max (uA): 5; PPK Max (W): 600; V(BR) Typ (V): 32.74; DatasheetVersion: Rev. A; PackageVersion: Rev. A, 01/2000; PackageReference: SMB-2-403C-01; PackageDescription: 2-Pin Small Molded Package, J-Bend Lead, Body 4.315 x 3.555 mm; Supplier 1: Digi-Key; Supplier Part Number 1: 1SMB28CAT3-ND; Direction: Bidirectional; Packing: Tape and Reel; Mounting Technology: Surface Mount; ComponentLink1Description: Manufacturer URL; ComponentLink1URL: http://www.onsemi.com/; ComponentLink2Description: Datasheet; ComponentLink2URL: http://www.onsemi.com/pub_link/Collateral/1SMB10CAT3-D.PDF; ComponentLink3Description: Package Specification; ComponentLink3URL: http://www.onsemi.com/pub_link/Collateral/1SMB10CAT3-D.PDF
footprint ONSC-SMB-2-403C-01_V (SOJ, 2-Leads, Body 4.57x3.81mm)
pins: 1 A1, 2 A2

## 1SMB28CAT3G
designator D?
600 W Peak Power Zener Transient Voltage Suppressor, Bidirectional, 2-Pin SMB, Pb-Free, Tape and Reel; Manufacturer: On Semiconductor; PartNumber: 1SMB28CAT3G; IR Max (uA): 5; PPK Max (W): 600; V(BR) Typ (V): 32.74; DatasheetVersion: Rev. A; PackageVersion: Rev. A, 01/2000; PackageReference: SMB-2-403C-01; PackageDescription: 2-Pin Small Molded Package, J-Bend Lead, Body 4.315 x 3.555 mm; Supplier 1: Digi-Key; Supplier Part Number 1: 1SMB28CAT3GOSTR-ND; Supplier 2: Digi-Key; Supplier Part Number 2: 1SMB28CAT3GOSCT-ND; Supplier 3: Digi-Key; Supplier Part Number 3: 1SMB28CAT3GOSDKR-ND; Supplier 4: Newark; Supplier Part Number 4: 42K3088; Supplier 5: Newark; Supplier Part Number 5: 10N9659; Supplier 6: Mouser; Supplier Part Number 6: 863-1SMB28CAT3G; Direction: Bidirectional; Packing: Tape and Reel; RoHS: Pb-Free; Mounting Technology: Surface Mount; ComponentLink1Description: Manufacturer URL; ComponentLink1URL: http://www.onsemi.com/; ComponentLink2Description: Datasheet; ComponentLink2URL: http://www.onsemi.com/pub_link/Collateral/1SMB10CAT3-D.PDF; ComponentLink3Description: Package Specification; ComponentLink3URL: http://www.onsemi.com/pub_link/Collateral/1SMB10CAT3-D.PDF
footprint ONSC-SMB-2-403C-01_V (SOJ, 2-Leads, Body 4.57x3.81mm)
pins: 1 A1, 2 A2

## 1SMB30AT3G
designator D?
600 W Peak Power Zener Transient Voltage Suppressor, Unidirectional, 2-Pin SMB, Pb-Free, Tape and Reel; Manufacturer: On Semiconductor; PartNumber: 1SMB30AT3G; IR Max (uA): 5; PPK Max (W): 600; V(BR) Typ (V): 35.05; DatasheetVersion: Rev. 13; PackageVersion: Rev. H, 05/2011; PackageReference: SMB-2-403A-03_H; PackageDescription: 2-Pin Small Molded Package, J-Bend Lead, Body 4.33 x 3.625 mm; Supplier 1: Digi-Key; Supplier Part Number 1: 1SMB30AT3GOSTR-ND; Supplier 2: Digi-Key; Supplier Part Number 2: 1SMB30AT3GOSCT-ND; Supplier 3: Digi-Key; Supplier Part Number 3: 1SMB30AT3GOSDKR-ND; Supplier 4: Newark; Supplier Part Number 4: 45J2438; Supplier 5: Mouser; Supplier Part Number 5: 863-1SMB30AT3G; Direction: Unidirectional; Packing: Tape and Reel; RoHS: Pb-Free; Mounting Technology: Surface Mount; ComponentLink1Description: Manufacturer URL; ComponentLink1URL: http://www.onsemi.com/; ComponentLink2Description: Datasheet; ComponentLink2URL: http://www.onsemi.com/pub_link/Collateral/1SMB5.0AT3-D.PDF; ComponentLink3Description: Package Specification; ComponentLink3URL: http://www.onsemi.com/pub_link/Collateral/1SMB5913BT3-D.PDF
footprint ONSC-SMB-2-403A-03_H_V (Molded, 2-Leads, Body 4.6x3.95mm)
pins: 1 K, 2 A

## 1SMB30CAT3
designator D?
600 W Peak Power Zener Transient Voltage Suppressor, Bidirectional, 2-Pin SMB, Tape and Reel; Manufacturer: On Semiconductor; PartNumber: 1SMB30CAT3; IR Max (uA): 5; PPK Max (W): 600; V(BR) Typ (V): 35.06; DatasheetVersion: Rev. A; PackageVersion: Rev. A, 01/2000; PackageReference: SMB-2-403C-01; PackageDescription: 2-Pin Small Molded Package, J-Bend Lead, Body 4.315 x 3.555 mm; Supplier 1: Digi-Key; Supplier Part Number 1: 1SMB30CAT3OSTR-ND; Supplier 2: Digi-Key; Supplier Part Number 2: 1SMB30CAT3OSCT-ND; Supplier 3: Digi-Key; Supplier Part Number 3: 1SMB30CAT3OSDKR-ND; Direction: Bidirectional; Packing: Tape and Reel; Mounting Technology: Surface Mount; ComponentLink1Description: Manufacturer URL; ComponentLink1URL: http://www.onsemi.com/; ComponentLink2Description: Datasheet; ComponentLink2URL: http://www.onsemi.com/pub_link/Collateral/1SMB10CAT3-D.PDF; ComponentLink3Description: Package Specification; ComponentLink3URL: http://www.onsemi.com/pub_link/Collateral/1SMB10CAT3-D.PDF
footprint ONSC-SMB-2-403C-01_V (SOJ, 2-Leads, Body 4.57x3.81mm)
pins: 1 A1, 2 A2

## 1SMB30CAT3G
designator D?
600 W Peak Power Zener Transient Voltage Suppressor, Bidirectional, 2-Pin SMB, Pb-Free, Tape and Reel; Manufacturer: On Semiconductor; PartNumber: 1SMB30CAT3G; IR Max (uA): 5; PPK Max (W): 600; V(BR) Typ (V): 35.06; DatasheetVersion: Rev. A; PackageVersion: Rev. A, 01/2000; PackageReference: SMB-2-403C-01; PackageDescription: 2-Pin Small Molded Package, J-Bend Lead, Body 4.315 x 3.555 mm; Supplier 1: Digi-Key; Supplier Part Number 1: 1SMB30CAT3GOSTR-ND; Supplier 2: Digi-Key; Supplier Part Number 2: 1SMB30CAT3GOSCT-ND; Supplier 3: Digi-Key; Supplier Part Number 3: 1SMB30CAT3GOSDKR-ND; Supplier 4: Farnell; Supplier Part Number 4: 1150533; Supplier 5: Newark; Supplier Part Number 5: 45J2439; Supplier 6: Mouser; Supplier Part Number 6: 863-1SMB30CAT3G; Direction: Bidirectional; Packing: Tape and Reel; RoHS: Pb-Free; Mounting Technology: Surface Mount; ComponentLink1Description: Manufacturer URL; ComponentLink1URL: http://www.onsemi.com/; ComponentLink2Description: Datasheet; ComponentLink2URL: http://www.onsemi.com/pub_link/Collateral/1SMB10CAT3-D.PDF; ComponentLink3Description: Package Specification; ComponentLink3URL: http://www.onsemi.com/pub_link/Collateral/1SMB10CAT3-D.PDF
footprint ONSC-SMB-2-403C-01_V (SOJ, 2-Leads, Body 4.57x3.81mm)
pins: 1 A1, 2 A2

## 1SMB33AT3
designator D?
600 W Peak Power Zener Transient Voltage Suppressor, Unidirectional, 2-Pin SMB, Tape and Reel; Manufacturer: On Semiconductor; PartNumber: 1SMB33AT3; IR Max (uA): 5; PPK Max (W): 600; V(BR) Typ (V): 38.65; DatasheetVersion: Rev. 13; PackageVersion: Rev. H, 05/2011; PackageReference: SMB-2-403A-03_H; PackageDescription: 2-Pin Small Molded Package, J-Bend Lead, Body 4.33 x 3.625 mm; Supplier 1: Digi-Key; Supplier Part Number 1: 1SMB33AT3OSCT-ND; Supplier 2: Digi-Key; Supplier Part Number 2: 1SMB33AT3OSDKR-ND; Direction: Unidirectional; Packing: Tape and Reel; Mounting Technology: Surface Mount; ComponentLink1Description: Manufacturer URL; ComponentLink1URL: http://www.onsemi.com/; ComponentLink2Description: Datasheet; ComponentLink2URL: http://www.onsemi.com/pub_link/Collateral/1SMB5.0AT3-D.PDF; ComponentLink3Description: Package Specification; ComponentLink3URL: http://www.onsemi.com/pub_link/Collateral/1SMB5913BT3-D.PDF
footprint ONSC-SMB-2-403A-03_H_V (Molded, 2-Leads, Body 4.6x3.95mm)
pins: 1 K, 2 A